# EAGLE library part 71-10SP-2D (library pswitch40)
Grayhill 71 Series, 10 Pos, 1 Pole, 2 Deck
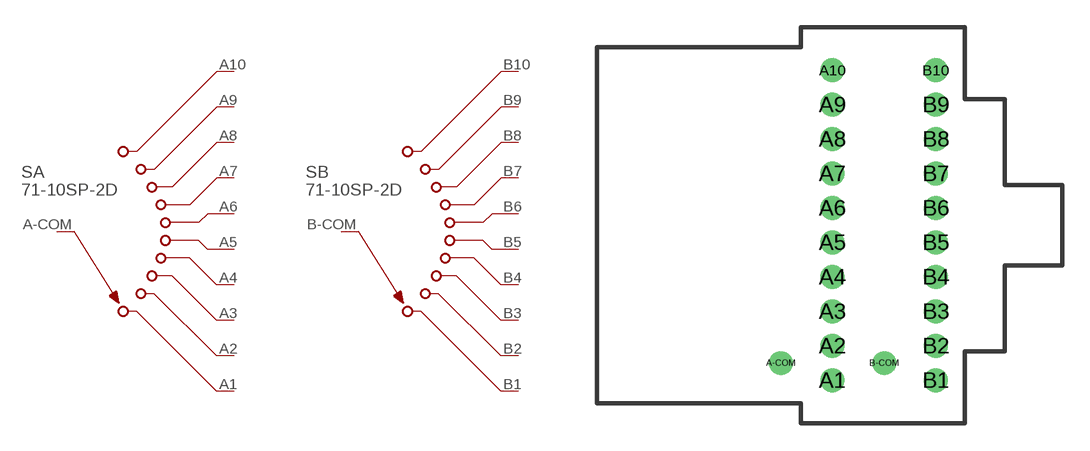
[diagram p9: symbol with the pads of 71-10-2D-2C; footprint 71-10-2D-2C]

Designator prefix S; gates A=71-10-PR B=71-10-PR

## 71-10SP-2D  [71-10-2D-2C]
A1  A:1  pas
A2  A:2  pas
A3  A:3  pas
A4  A:4  pas
A5  A:5  pas
A6  A:6  pas
A7  A:7  pas
A8  A:8  pas
A9  A:9  pas
A10  A:10  pas
A-COM  A:COM  pas
B1  B:1  pas
B2  B:2  pas
B3  B:3  pas
B4  B:4  pas
B5  B:5  pas
B6  B:6  pas
B7  B:7  pas
B8  B:8  pas
B9  B:9  pas
B10  B:10  pas
B-COM  B:COM  pas

## Footprint 71-10-2D-2C (pad centres in mm)
Grayhill 71 Series
drill 0.813 round: A1 2.857,-8.572; A2 2.857,-6.668; A3 2.857,-4.763; A4 2.857,-2.857; A5 2.857,-0.953; A6 2.857,0.953; A7 2.857,2.857; A8 2.857,4.763; A9 2.857,6.668; A10 2.857,8.572; A-COM 0,-7.62; B1 8.573,-8.572; B2 8.573,-6.668; B3 8.573,-4.763; B4 8.573,-2.857; B5 8.573,-0.953; B6 8.573,0.953; B7 8.573,2.857; B8 8.573,4.763; B9 8.573,6.668; B10 8.573,8.572; B-COM 5.715,-7.62